# Altium footprint library MPL115A.PcbLib: 1 footprints
Each footprint in its own frame and in the unit in brackets; x right, y up, seen from the top. Pads: shape width x height; smd on the part's side, far side on the other; paste and mask are expansions set on the pad; w line width, h text height; cw(c..) or ccw(c..) is an arc to the next point about the centre after c.
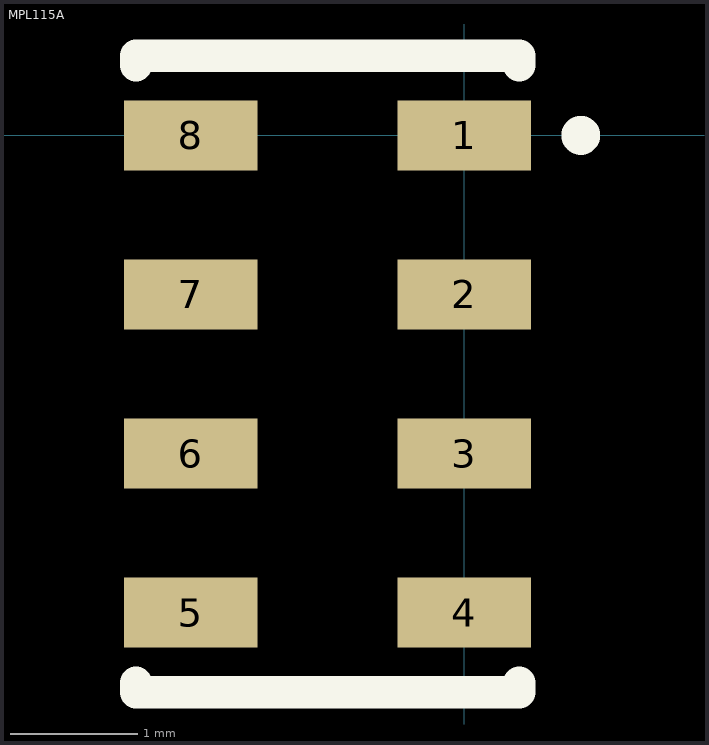
[diagram p0: the footprint, top view; thin cyan lines are the x and y axes]

## MPL115A [mm] "Barometric Pressure/Temperature Sensor"
height 1.2
pads (8):
  rect 1.05x0.55 smd: 1(0,0) 2(0,-1.25) 3(0,-2.5) 4(0,-3.75) 5(-2.15,-3.75) 6(-2.15,-2.5) 7(-2.15,-1.25) 8(-2.15,0)
Top Overlay:
  circle w0.254: c0.914,0 r0.025
  lines w0.254: -2.58,-4.3 -2.58,-4.375 0.43,-4.375 0.43,-4.3 ; -2.58,0.55 -2.58,0.625 0.43,0.625 0.43,0.55
3D body: height 1.2, standoff 0, extent -2.707,-4.502 0.557,0.752